# Altium footprint library DP_Slave_PCB.PcbLib: 27 footprints (part 1 of 2)
Each footprint in its own frame and in the unit in brackets; x right, y up, seen from the top. Pads: shape width x height; smd on the part's side, far side on the other; paste and mask are expansions set on the pad; w line width, h text height; cw(c..) or ccw(c..) is an arc to the next point about the centre after c.
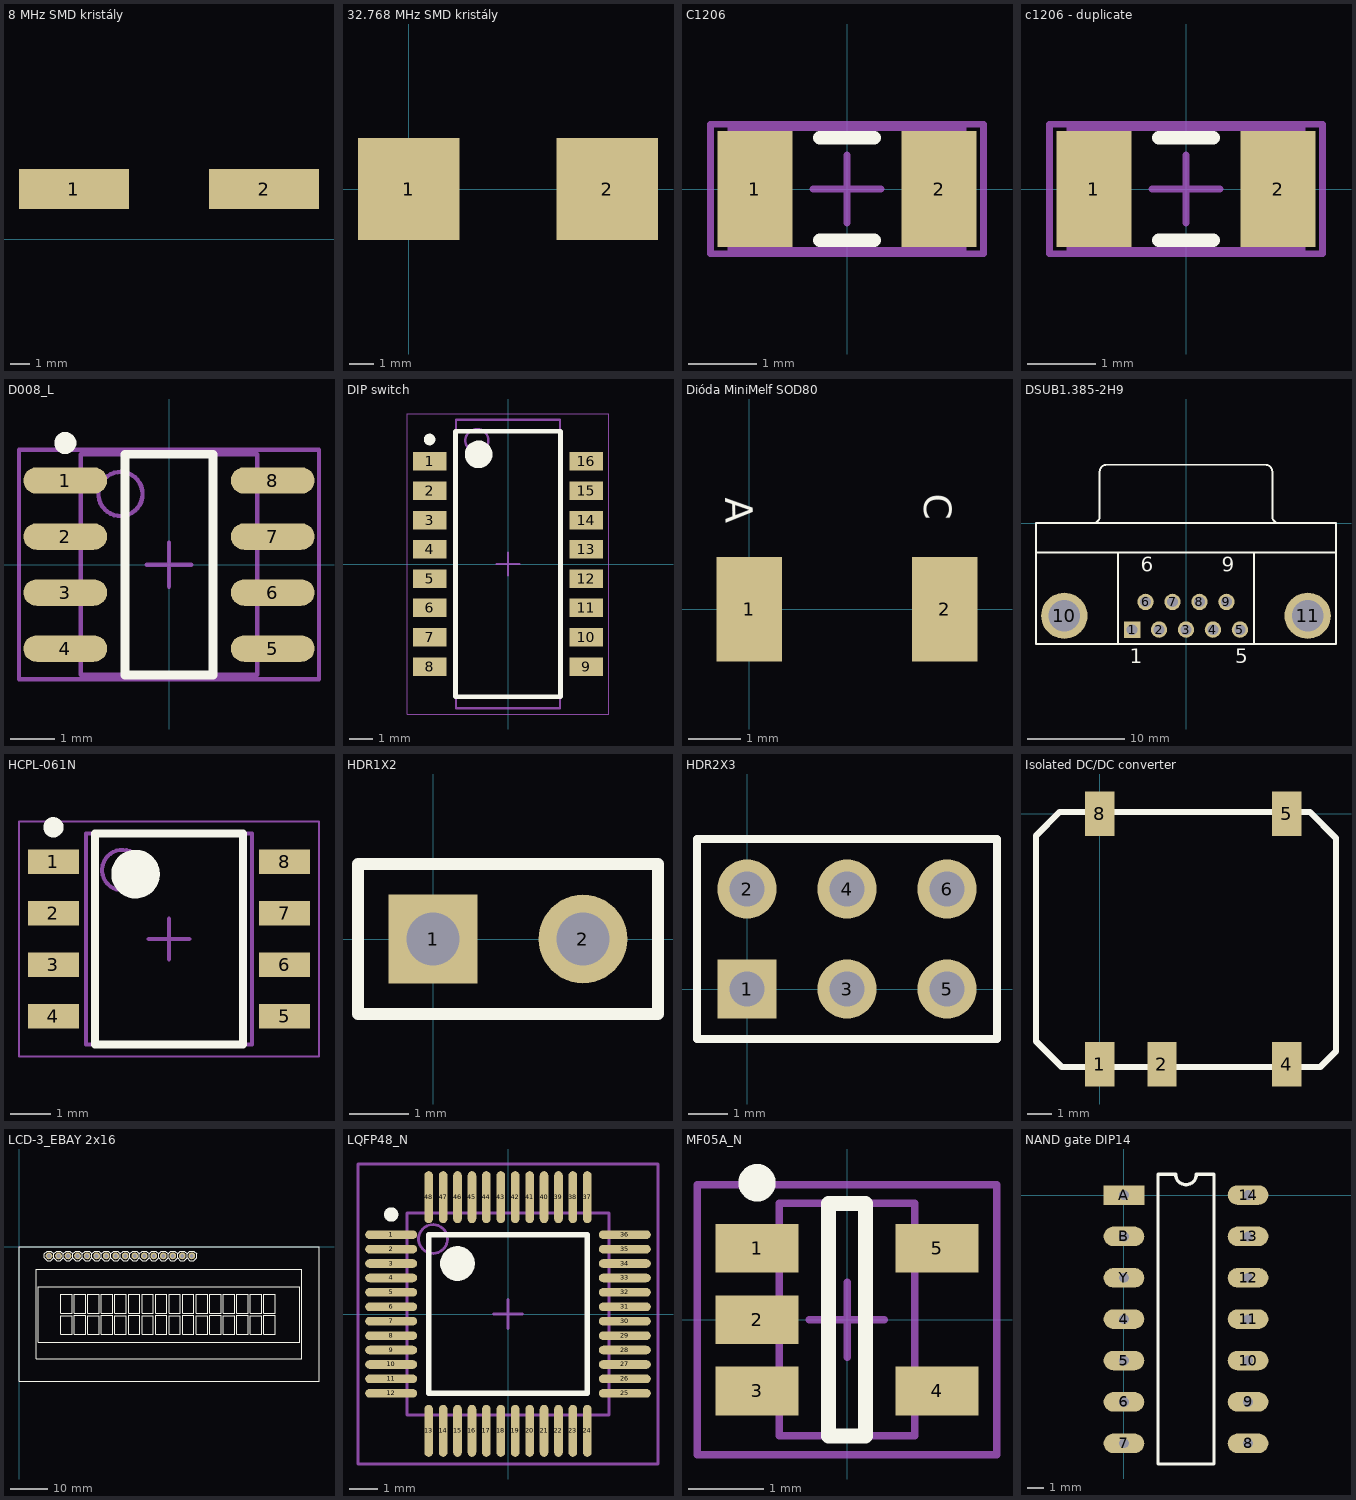
[diagram p0: the footprints below, top view; thin cyan lines are the x and y axes]

## 8 MHz SMD kristály [mm]
pads (2):
  rect 5.5x2 smd: 1(6.75,2.5) 2(16.25,2.5)

## 32.768 MHz SMD kristály [mm]
pads (2):
  rect 4.1x4.1 smd: 1(0,0) 2(8,0)

## C1206 [mm]
pads (2):
  rect 1.1x1.7 smd: 1(-1.35,0) 2(1.35,0)
Top Overlay:
  lines w0.2: -0.4,-0.75 0.4,-0.75 ; -0.4,0.75 0.4,0.75
Mechanical 13:
  lines w0.1: -1.7,-0.9 -1.7,0.9 1.7,0.9 1.7,-0.9 -1.7,-0.9
Mechanical 15:
  lines w0.1: -0.5,0 0.5,0 ; 0,-0.5 0,0.5 ; -2,-0.95 -2,0.95 2,0.95 2,-0.95 -2,-0.95
3D body: height 1.3, standoff 0, extent -1.7,-0.9 1.7,0.9

## c1206 - duplicate [mm]
pads (2):
  rect 1.1x1.7 smd: 1(-1.35,0) 2(1.35,0)
Top Overlay:
  lines w0.2: -0.4,-0.75 0.4,-0.75 ; -0.4,0.75 0.4,0.75
Mechanical 13:
  lines w0.1: -1.7,-0.9 -1.7,0.9 1.7,0.9 1.7,-0.9 -1.7,-0.9
Mechanical 15:
  lines w0.1: -0.5,0 0.5,0 ; 0,-0.5 0,0.5 ; -2,-0.95 -2,0.95 2,0.95 2,-0.95 -2,-0.95
3D body: height 1.3, standoff 0, extent -1.7,-0.9 1.7,0.9

## D008_L [mm]
pads (8):
  oval 1.9x0.6 smd: 1(-2.35,1.905) 2(-2.35,0.635) 3(-2.35,-0.635) 4(-2.35,-1.905) 5(2.35,-1.905) 6(2.35,-0.635) 7(2.35,0.635) 8(2.35,1.905)
Top Overlay:
  circle w0.25: c-2.35,2.755 r0.125
  lines w0.2: -1,-2.5 1,-2.5 1,2.5 -1,2.5 -1,-2.5
Mechanical 13:
  circle w0.1: c-1.1,1.6 r0.5
  lines w0.1: -2,-2.5 2,-2.5 2,2.5 -2,2.5 -2,-2.5
Mechanical 15:
  lines w0.1: -0.5,0 0.5,0 ; 0,-0.5 0,0.5 ; -3.4,-2.6 3.4,-2.6 3.4,2.6 -3.4,2.6 -3.4,-2.6
3D body: height 1.75, standoff 0, extent -2,-2.5 2,2.5

## DIP switch [mm]
pads (16):
  rect 1.45x0.8 smd: 1(-3.4,4.445) 2(-3.4,3.175) 3(-3.4,1.905) 4(-3.4,0.635) 5(-3.4,-0.635) 6(-3.4,-1.905) 7(-3.4,-3.175) 8(-3.4,-4.445) 9(3.4,-4.445) 10(3.4,-3.175) 11(3.4,-1.905) 12(3.4,-0.635) 13(3.4,0.635) 14(3.4,1.905) 15(3.4,3.175) 16(3.4,4.445)
Top Overlay:
  circle w0.6: c-1.275,4.75 r0.3
  circle w0.25: c-3.4,5.395 r0.125
  lines w0.2: -2.275,-5.75 2.275,-5.75 2.275,5.75 -2.275,5.75 -2.275,-5.75
Mechanical 13:
  circle w0.1: c-1.35,5.35 r0.5
  lines w0.1: -2.25,-6.25 2.25,-6.25 2.25,6.25 -2.25,6.25 -2.25,-6.25
Mechanical 15:
  lines w0.05: -4.375,-6.5 4.375,-6.5 4.375,6.5 -4.375,6.5 -4.375,-6.5
  lines w0.1: -0.5,0 0.5,0 ; 0,-0.5 0,0.5
3D body: height 1.5, standoff 0, extent -3.695,-6.25 3.695,6.25

## Dióda MiniMelf SOD80 [mm]
pads (2):
  rect 1.25x2 smd: 1(0,0) 2(3.75,0)
Top Overlay:
  text "A" at -0.457,2.134 h0.52
  text "C" at 3.353,2.21 h0.52

## DSUB1.385-2H9 [mm]
pads (11):
  rect 1.69x1.69 hole 1.09: 1(-5.54,-10.92)
  round 1.69 hole 1.09: 2(-2.77,-10.92) 3(0,-10.92) 4(2.77,-10.92) 5(5.54,-10.92) 6(-4.155,-8.08) 7(-1.385,-8.08) 8(1.385,-8.08) 9(4.155,-8.08)
  round 4.76 hole 3.26: 10(-12.495,-9.5) 11(12.495,-9.5)
Top Overlay:
  lines w0.2: -15.4,-3 15.4,-3 ; -9.56,0.005 ccw(c-9.56,0.7) -8.865,0.7 -8.865,5.3 ; -8.86,5.305 cw(c-8.165,5.305) -8.165,6 8.165,6 cw(c8.165,5.305) 8.86,5.305 ; -7,-12.4 -7,-3 ; 7,-12.4 7,-3 ; 8.865,5.3 8.865,0.7 ccw(c9.56,0.7) 9.56,0.005 ; -15.4,-12.4 -15.4,0 15.4,0 15.4,-12.4 -15.4,-12.4
  text "1" at -5.79,-14.375 h1.5
  text "5" at 5.04,-14.375 h1.5
  text "9" at 3.655,-4.975 h1.5
  text "6" at -4.655,-4.975 h1.5

## HCPL-061N [mm]
pads (8):
  rect 1.25x0.6 smd: 1(-19.95,13.335) 2(-19.95,12.065) 3(-19.95,10.795) 4(-19.95,9.525) 5(-14.25,9.525) 6(-14.25,10.795) 7(-14.25,12.065) 8(-14.25,13.335)
Top Overlay:
  circle w0.25: c-19.95,14.185 r0.125
  circle w0.6: c-17.925,13.03 r0.3
  lines w0.2: -18.925,8.83 -18.925,14.03 -15.275,14.03 -15.275,8.83 -18.925,8.83
Mechanical 13:
  circle w0.1: c-18.25,13.13 r0.5
  lines w0.1: -19.15,8.83 -19.15,14.03 -15.05,14.03 -15.05,8.83 -19.15,8.83
Mechanical 15:
  lines w0.05: -20.8,8.53 -20.8,14.33 -13.4,14.33 -13.4,8.53 -20.8,8.53
  lines w0.1: -17.6,11.43 -16.6,11.43 ; -17.1,10.93 -17.1,11.93
3D body: height 3.3, standoff 0, extent -20.097,8.83 -14.103,14.03

## HDR1X2 [mm]
pads (2):
  rect 1.5x1.5 hole 0.9: 1(0,0)
  round 1.5 hole 0.9: 2(2.54,0)
Top Overlay:
  lines w0.2: -1.27,-1.27 3.81,-1.27 3.81,1.27 -1.27,1.27 -1.27,-1.27

## HDR2X3 [mm]
pads (6):
  rect 1.5x1.5 hole 0.9: 1(0,0)
  round 1.5 hole 0.9: 2(0,2.54) 3(2.54,0) 4(2.54,2.54) 5(5.08,0) 6(5.08,2.54)
Top Overlay:
  lines w0.2: 1.482,-1.27 6.35,-1.27 ; 6.35,-1.27 -1.27,-1.27 -1.27,3.81 6.35,3.81 6.35,-1.27

## Isolated DC/DC converter [mm]
pads (5):
  rect 1.2x1.8 smd: 1(0,-10.2) 2(2.54,-10.2) 4(7.62,-10.2) 5(7.62,0) 8(0,0)
Top Overlay:
  lines w0.254: -2.591,-9.271 -1.549,-10.312 8.992,-10.312 9.627,-9.677 9.627,-0.991 8.56,0.076 -1.626,0.076 -2.591,-0.889 -2.591,-9.271

## LCD-3_EBAY 2x16 [mm]
pads (16):
  round 1.8 hole 1: 1(8,-2.5) 2(10.54,-2.5) 3(13.08,-2.5) 4(15.62,-2.5) 5(18.16,-2.5) 6(20.7,-2.5) 7(23.24,-2.5) 8(25.78,-2.5) 9(28.32,-2.5) 10(30.86,-2.5) 11(33.4,-2.5) 12(35.94,-2.5) 13(38.48,-2.5) 14(41.02,-2.5) 15(43.56,-2.5) 16(46.1,-2.5)
Top Overlay:
  drawing of 269 lines, arcs and shapes, not listed
Multi-Layer:
  circle w0.254: c2.7,-2.3 r1.4
  circle w0.254: c2.7,-33.7 r1.4
  circle w0.254: c77.3,-33.7 r1.4
  circle w0.254: c77.3,-2.3 r1.4
3D body: height 0.2, standoff 0, extent 0.076,-36 79.934,0.103
3D body: height 4, standoff 0, extent 4.548,-29.959 75.438,-6.1

## LQFP48_N [mm]
pads (48):
  oval 1.8x0.3 smd: 1(-4.05,2.75) 2(-4.05,2.25) 3(-4.05,1.75) 4(-4.05,1.25) 5(-4.05,0.75) 6(-4.05,0.25) 7(-4.05,-0.25) 8(-4.05,-0.75) 9(-4.05,-1.25) 10(-4.05,-1.75) 11(-4.05,-2.25) 12(-4.05,-2.75) 25(4.05,-2.75) 26(4.05,-2.25) 27(4.05,-1.75) 28(4.05,-1.25) 29(4.05,-0.75) 30(4.05,-0.25) 31(4.05,0.25) 32(4.05,0.75) 33(4.05,1.25) 34(4.05,1.75) 35(4.05,2.25) 36(4.05,2.75)
  oval 0.3x1.8 smd: 13(-2.75,-4.05) 14(-2.25,-4.05) 15(-1.75,-4.05) 16(-1.25,-4.05) 17(-0.75,-4.05) 18(-0.25,-4.05) 19(0.25,-4.05) 20(0.75,-4.05) 21(1.25,-4.05) 22(1.75,-4.05) 23(2.25,-4.05) 24(2.75,-4.05) 37(2.75,4.05) 38(2.25,4.05) 39(1.75,4.05) 40(1.25,4.05) 41(0.75,4.05) 42(0.25,4.05) 43(-0.25,4.05) 44(-0.75,4.05) 45(-1.25,4.05) 46(-1.75,4.05) 47(-2.25,4.05) 48(-2.75,4.05)
Top Overlay:
  circle w0.25: c-4.05,3.45 r0.125
  circle w0.6: c-1.75,1.75 r0.3
  lines w0.2: -2.75,-2.75 -2.75,2.75 2.75,2.75 2.75,-2.75 -2.75,-2.75
Mechanical 13:
  circle w0.1: c-2.6,2.6 r0.5
  lines w0.1: -3.5,-3.5 -3.5,3.5 3.5,3.5 3.5,-3.5 -3.5,-3.5
Mechanical 15:
  lines w0.1: -0.5,0 0.5,0 ; 0,-0.5 0,0.5 ; -5.2,-5.2 -5.2,5.2 5.2,5.2 5.2,-5.2 -5.2,-5.2
3D body: height 1.6, standoff 0, extent -3.5,-3.5 3.5,3.5

## MF05A_N [mm]
pads (5):
  rect 1.1x0.65 smd: 1(-1.2,0.95) 2(-1.2,0) 3(-1.2,-0.95) 4(1.2,-0.95) 5(1.2,0.95)
Top Overlay:
  circle w0.25: c-1.2,1.825 r0.125
  lines w0.2: -0.25,-1.55 -0.25,1.55 0.25,1.55 0.25,-1.55 -0.25,-1.55
Mechanical 13:
  lines w0.1: -0.9,-1.55 0.9,-1.55 0.9,1.55 -0.9,1.55 -0.9,-1.55
Mechanical 15:
  lines w0.1: -0.5,0 0.5,0 ; 0,-0.5 0,0.5 ; -2,-1.8 2,-1.8 2,1.8 -2,1.8 -2,-1.8
3D body: height 1.19, standoff 0, extent -0.9,-1.55 0.9,1.55

## NAND gate DIP14 [mm]
pads (14):
  oval 2.5x1.2 hole 0.6: 4(0,-7.62) 5(0,-10.16) 6(0,-12.7) 7(0,-15.24) 8(7.62,-15.24) 9(7.62,-12.7) 10(7.62,-10.16) 11(7.62,-7.62) 12(7.62,-5.08) 13(7.62,-2.54) 14(7.62,0) B(0,-2.54) Y(0,-5.08)
  rect 2.5x1.2 hole 0.6: A(0,0)
Top Overlay:
  lines w0.2: 2.085,-16.51 5.535,-16.51 5.535,1.27 4.445,1.27 cw(c3.81,1.27) 3.175,1.27 2.085,1.27 2.085,-16.51